# Altium schematic symbol library Connectors.SchLib: 35 symbols
Pins are listed as number, name and electrical type; pins without a type are passive.

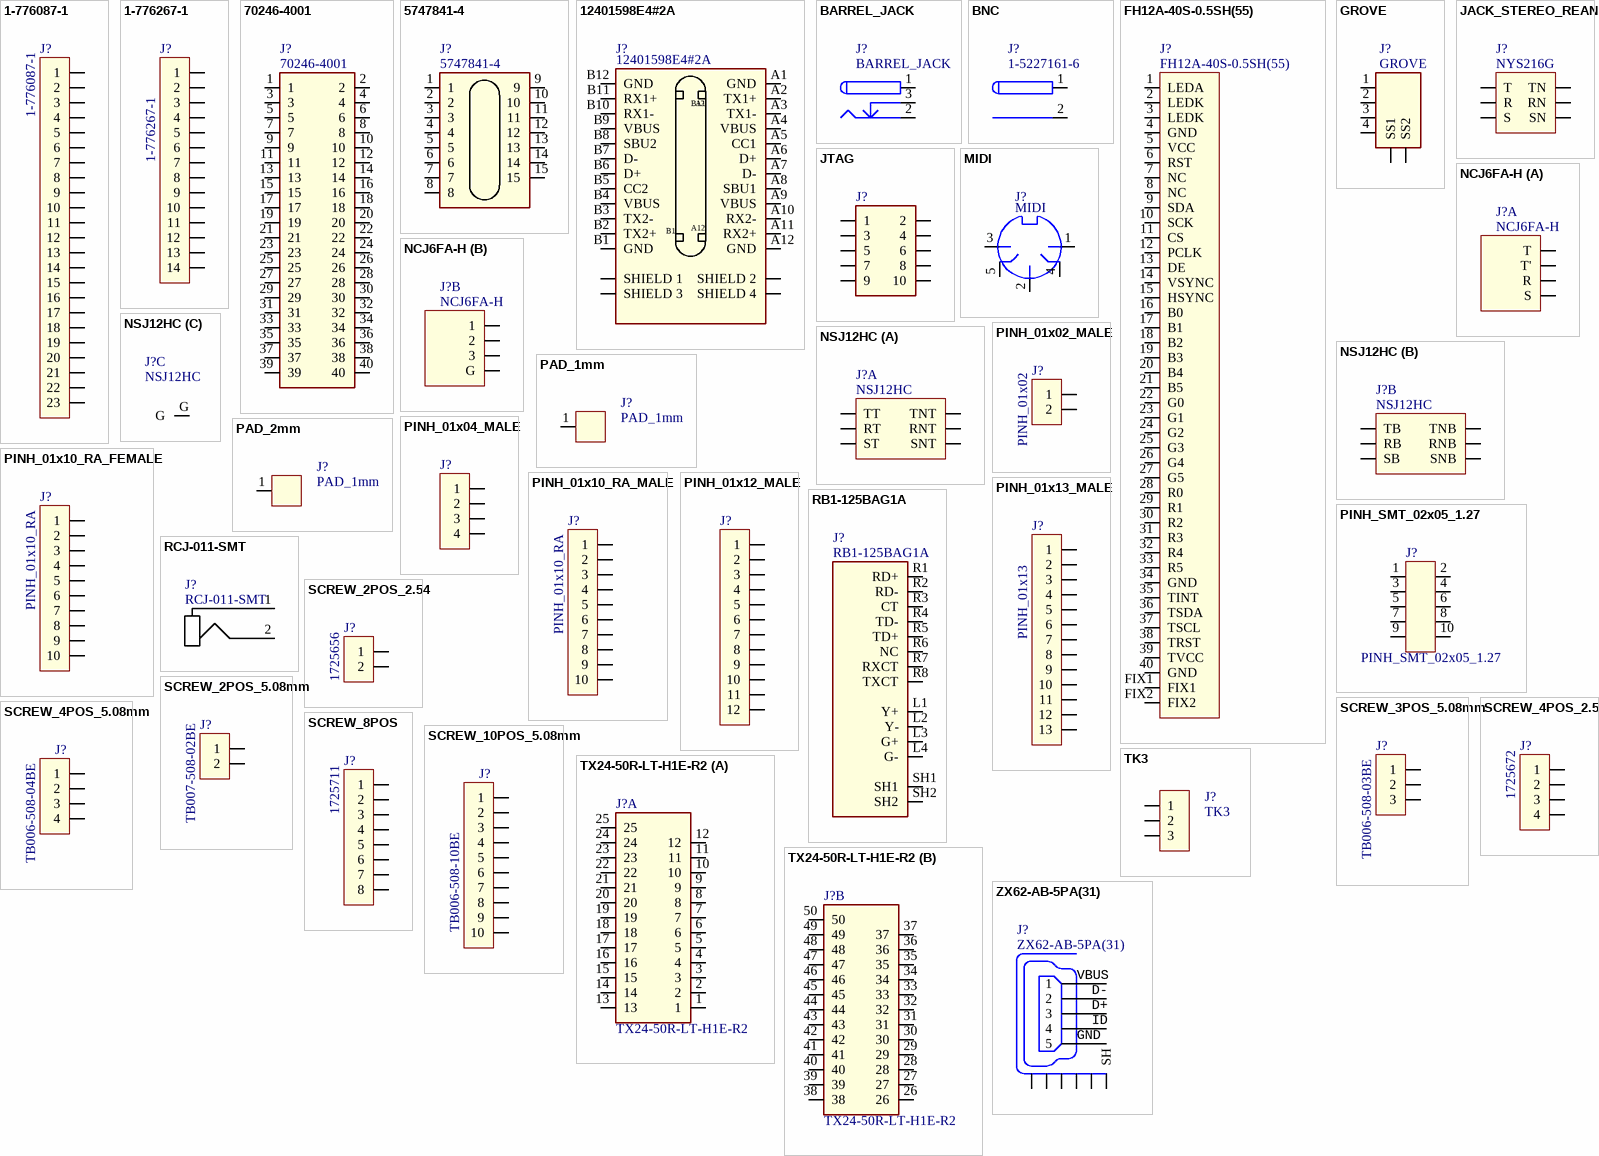
[diagram p0: symbols 1-776087-1 to ZX62-AB-5PA(31)]

## 1-776087-1
designator J?
Connettori automobilistici 23 POS RTANG HDR ASSY W/GASKET; Code Arduino: XE_J0023
footprint 1-776087-1 (Connettori automobilistici 23POS RTANG HDR ASSY W/GASKET)
pins: 1, 2, 3, 4, 5, 6, 7, 8, 9, 10, 11, 12, 13, 14, 15, 16, 17, 18, 19, 20, 21, 22, 23

## 1-776267-1
designator J?
Connettori automobilistici 14POS RTANG HDR ASSY W/GASKET; Code: XE_J0021
footprint 1-776267-1 (Connettori automobilistici 14POS RTANG HDR ASSY W/GASKET)
pins: 1, 2, 3, 4, 5, 6, 7, 8, 9, 10, 11, 12, 13, 14

## 70246-4001
designator J?
40 Pins IDC connector
footprint 70246-4001
pins: 1, 2, 3, 4, 5, 6, 7, 8, 9, 10, 11, 12, 13, 14, 15, 16, 17, 18, 19, 20, 21, 22, 23, 24, 25, 26, 27, 28, 29, 30, 31, 32, 33, 34, 35, 36, 37, 38, 39, 40

## 5747841-4
designator J?
D-SUB 15 poles
footprint DSUB-15 (5747841-4)
pins: 1, 2, 3, 4, 5, 6, 7, 8, 9, 10, 11, 12, 13, 14, 15

## 12401598E4#2A
designator J?
USBC receptacle
footprint 12401598E4#2A
pins: A1 GND, A2 TX1+, A3 TX1-, A4 VBUS, A5 CC1, A6 D+, A7 D-, A8 SBU1, A9 VBUS, A10 RX2-, A11 RX2+, A12 GND, B1 GND, B2 TX2+, B3 TX2-, B4 VBUS, B5 CC2, B6 D+, B7 D-, B8 SBU2, B9 VBUS, B10 RX1-, B11 RX1+, B12 GND, SHIELD 1, SHIELD 2, SHIELD 3, SHIELD 4

## BARREL_JACK
designator J?
BARREL JACK 5x2.1
footprint BARREL_JACK
pins: 1 (power), 2 (power), 3 (power)

## BNC
designator J?, comment 1-5227161-6
footprint 1-5227161-6
pins: 1 (power), 2 (power)

## FH12A-40S-0.5SH(55)
designator J?
FFC &FPC 0.5MM 40 POS R/A TOP SMT GLD
footprint FH12A-40S-0.5SH(55) (FFC &FPC 0.5MM 40 POS R/A TOP SMT GLD)
pins: 1 LEDA, 2 LEDK, 3 LEDK, 4 GND, 5 VCC, 6 RST, 7 NC, 8 NC, 9 SDA, 10 SCK, 11 CS, 12 PCLK, 13 DE, 14 VSYNC, 15 HSYNC, 16 B0, 17 B1, 18 B2, 19 B3, 20 B4, 21 B5, 22 G0, 23 G1, 24 G2, 25 G3, 26 G4, 27 G5, 28 R0, 29 R1, 30 R2, 31 R3, 32 R4, 33 R5, 34 GND, 35 TINT, 36 TSDA, 37 TSCL, 38 TRST, 39 TVCC, 40 GND, FIX1, FIX2

## GROVE
designator J?
Grove connector
footprint GROVE_SMT
footprint GROVE_THT
pins: 1, 2, 3, 4, SS1, SS2

## JACK_STEREO_REAN
designator J?, comment NYS216G
Stereo Jack with Switch; Manufacturer: REAN; Code Arduino: XE_J0020; Part Number: NYS216G
footprint NMJ6HCD2
pins: R, RN, S, SN, T, TN

## JTAG
designator J?  (value not drawn)
footprint SHF-105-01-L-D-RA (JTAG Right Angle)
pins: 1, 2, 3, 4, 5, 6, 7, 8, 9, 10

## MIDI
designator J?
MIDI Jack; Part Number: SDS-50J; Manufacturer: CUI; Code Arduino: J0544
footprint MIDI
pins: 1, 2, 3, 4, 5

## NCJ6FA-H
designator J?
XLR Combo Jack; Code: XE_J0015
footprint NCJ6FA-H (XLR Combo Jack)
part A pins: R, S, T, T'
part B pins: 1, 2, 3, G

## NSJ12HC
designator J?
Stereo Stacked Jack; Code: XE_J0011
footprint NSJ12HC (Stereo stacked Jack)
part A pins: RNT, RT, SNT, ST, TNT, TT
part B pins: RB, RNB, SB, SNB, TB, TNB
part C pins: G

## PAD_1mm
designator J?
1mm hole; Code Arduino: NA; Manufacturer: NA; Part Number: NA
footprint PAD_1mm (Footprint not found)
pins: 1

## PAD_2mm
designator J?, comment PAD_1mm
2mm hole; Coe Arduino: NA; Manufacturer: NA; Part Number: NA
footprint PAD_2mm (PAD_2MM)
pins: 1

## PINH_01x02_MALE
designator J?, comment PINH_01x02
PINH_01x02_MALE; Code: XE_J0022
footprint PINH_01x02_MALE
pins: 1, 2

## PINH_01x04_MALE
designator J?
Code: XE_J0016
footprint PINH_01x04_MALE
pins: 1, 2, 3, 4

## PINH_01x10_RA_FEMALE
designator J?, comment PINH_01x10_RA
PINH_01x10_RA_FEMALE; Code: XE_J0003
footprint PINH_01x10_RA_FEMALE
pins: 1, 2, 3, 4, 5, 6, 7, 8, 9, 10

## PINH_01x10_RA_MALE
designator J?, comment PINH_01x10_RA
PINH_01x10_RA_MALE; Code: XE_J0003
footprint PINH_01x10_RA_MALE
pins: 1, 2, 3, 4, 5, 6, 7, 8, 9, 10

## PINH_01x12_MALE
designator J?
Code: XE_J0026
footprint PINH_01x12_MALE
pins: 1, 2, 3, 4, 5, 6, 7, 8, 9, 10, 11, 12

## PINH_01x13_MALE
designator J?, comment PINH_01x13
PINH_01x13_MALE; Code: XE_J0021
footprint PINH_01x13_MALE
pins: 1, 2, 3, 4, 5, 6, 7, 8, 9, 10, 11, 12, 13

## PINH_SMT_02x05_1.27
designator J?
FTSH-105-01-F-DV
footprint PINH_SMT_02x05_1.27
pins: 1, 2, 3, 4, 5, 6, 7, 8, 9, 10

## RB1-125BAG1A
designator J?
Ethernet Connector Wiznet
footprint RB1-125BAG1A (Ethernet connector UDE)
pins: L1 Y+, L2 Y-, L3 G+, L4 G-, R1 RD+, R2 RD-, R3 CT, R4 TD-, R5 TD+, R6 NC, R7 RXCT, R8 TXCT, SH1, SH2

## RCJ-011-SMT
designator J?
JACK RCA SMT
footprint RCJ-011-SMT
pins: 1, 2

## SCREW_2POS_2.54
designator J?, comment 1725656
Code: XE_J0003
footprint SCREW_2POS_2.54
pins: 1, 2

## SCREW_2POS_5.08mm
designator J?, comment TB007-508-02BE
Code: XE_J0003
footprint SCREW_2POS_5.08mm
pins: 1, 2

## SCREW_3POS_5.08mm
designator J?, comment TB006-508-03BE
Code: XE_J0004
footprint SCREW_3POS_5.08mm
pins: 1, 2, 3

## SCREW_4POS_2.54
designator J?, comment 1725672
Code: XE_J0016
footprint SCREW_4POS_2.54
pins: 1, 2, 3, 4

## SCREW_4POS_5.08mm
designator J?, comment TB006-508-04BE
Code: XE_J0001
footprint SCREW_4POS_5.08mm
pins: 1, 2, 3, 4

## SCREW_8POS
designator J?, comment 1725711
Code: XE_J0017
footprint SCREW_8POS_2.54
pins: 1, 2, 3, 4, 5, 6, 7, 8

## SCREW_10POS_5.08mm
designator J?, comment TB006-508-10BE
Code: XE_J0005
footprint SCREW_10POS_5.08mm
pins: 1, 2, 3, 4, 5, 6, 7, 8, 9, 10

## TK3
designator J?
footprint TK3
pins: 1, 2, 3

## TX24-50R-LT-H1E-R2
designator J?
footprint TX24-50R-LT-H1E-R2
part A pins: 1, 2, 3, 4, 5, 6, 7, 8, 9, 10, 11, 12, 13, 14, 15, 16, 17, 18, 19, 20, 21, 22, 23, 24, 25
part B pins: 26, 27, 28, 29, 30, 31, 32, 33, 34, 35, 36, 37, 38, 39, 40, 41, 42, 43, 44, 45, 46, 47, 48, 49, 50

## ZX62-AB-5PA(31)
designator J?
USB micro
footprint ZX62-AB-5PA(31)
pins: 1, 2, 3, 4, 5, M1 SH, M2 SH, M3 SH, M4 SH, M5 SH, M6 SH
text: VBUS; D-; D+; ID; GND